# Altium schematic symbol library Relays.SchLib: 4 symbols
Pins are listed as number, name and electrical type; pins without a type are passive.

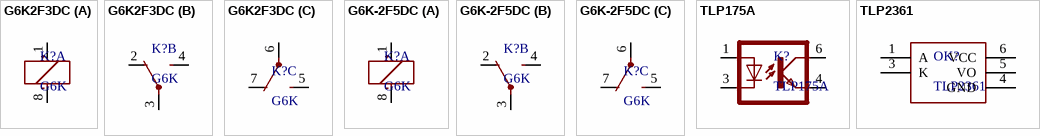
[diagram p0: symbols G6K2F3DC to TLP2361]

## G6K2F3DC
designator K?, comment G6K
OMRON ELECTRONIC COMPONENTS   G6K-2F 3DC   RELAY, SMD, DPCO, 3VDC; Manufacturer Part Number: G6K2F3DC; Contact Current Rating: 1A; Coil Resistance: 91R; Throw Configuration: DPDT; Coil Current: 33mA; Coil Voltage (DC): 3V; Operate Time: 3ms; Release Time: 1.3ms; Coil Type: Non-Latching; Coil Power: 100mW; Voltage Rating (AC): 125V; Number of Poles: 2; Contact Resistance: 100mR; Insulation Resistance: 1GR; Voltage Rating (DC): 60V; Supplier 1: Farnell; Supplier Part Number 1: 4446161; Manufacturer: Omron; RoHS: Yes; Category: Relays; Stock: 7; Pricing: 1=4.11000, 10=3.83000, 25=3.15000, 150=2.90000, 250=2.64000 (EUR); Mount: PCB,Surface Mount; Number of Pins: 8; Contact Material: Gold,Silver; Min Operating Temperature: -40°C; Max Operating Temperature: 70°C; Termination: Gull Wing; Packaging: Rail/Tube; Current Rating: 33mA; Power Rating: 100mW; Length: 10mm; Height: 5.2mm; Depth: 7.8mm; Width: 10mm; Radiation Hardening: No; REACH SVHC: Unknown; ComponentLink1URL: https://datasheet.ciiva.com/26921/getdatasheetpartid-774292-26921118.pdf?src-supplier=Verical; ComponentLink1Description: https://datasheet.ciiva.com/26921/getdatasheetpartid-774292-26921118.pdf?src-supplier=Verical; ComponentLink2URL: https://datasheet.ciiva.com/1524/15378-1524967.pdf?src-supplier=Element14; ComponentLink2Description: https://datasheet.ciiva.com/1524/15378-1524967.pdf?src-supplier=Element14; Price: 2.74
footprint G6K
part A pins: 1 +, 8 -
part B pins: 2 O, 3 P, 4 S
part C pins: 5 S, 6 P, 7 O

## G6K-2F5DC
designator K?, comment G6K
OMRON - G6K-2F 5DC - RELAY, SIGNAL, DPDT, 30VDC, 1A; Manufacturer: Cliff; Coil Resistance: 237R; Coil Voltage (DC): 5V; Coil Current: 21.1mA; Coil Power: 100mW; Coil Type: Non-Latching; Release Time: 1.3ms; Contact Resistance: 100mR; Insulation Resistance: 1GR; Number of Poles: 2; Supplier 1: Farnell; Supplier Part Number 1: 4446185; Manufacturer Part Number: G6K-2F5DC; Stock: 0; RoHS: Yes; Mount: PCB; Case/Package: SMD/SMT; Contact Material: Gold; Min Operating Temperature: -40°C; Max Operating Temperature: 70°C; Contact Current Rating: 1A; Termination: SMD/SMT; Current Rating: 21.1mA; Power Rating: 100mW; Length: 10mm; Height: 5.2mm; Depth: 7.8mm; Width: 10mm; REACH SVHC: Unknown; ComponentLink1URL: https://datasheet.ciiva.com/1524/1702879-1524968.pdf?src-supplier=Element14; ComponentLink1Description: https://datasheet.ciiva.com/1524/1702879-1524968.pdf?src-supplier=Element14; Price: 2.68
footprint G6K
part A pins: 1 +, 8 -
part B pins: 2 O, 3 P, 4 S
part C pins: 5 S, 6 P, 7 O

## TLP175A
designator K?
Toshiba TLP175A AC Input MOSFET Output Optocoupler, Surface Mount, 4-Pin SOIC; Isolation Voltage: 3.75kV; Max Input Current: 80mA; Number of Channels: 1; Rise Time: 1ms; Supplier 1: Farnell; Supplier Part Number 1: 2524257; Manufacturer: Toshiba; Manufacturer Part Number: TLP175A; Stock: 0; Pricing: 5=0.877, 25=0.717, 100=0.597, 250=0.546, 500=0.49, 1000=0.441 (EUR); RoHS: No; Mount: Surface Mount; Case/Package: SOIC; Number of Pins: 4; Fall Time: 1ms; REACH SVHC: Unknown; ComponentLink1URL: http://www.farnell.com/datasheets/2017792.pdf?src-supplier=Farnell; ComponentLink1Description: http://www.farnell.com/datasheets/2017792.pdf?src-supplier=Farnell; ComponentLink2URL: http://uk.rs-online.com/webdocs/129d/0900766b8129d5be.pdf?src-supplier=RSComponents; ComponentLink2Description: http://uk.rs-online.com/webdocs/129d/0900766b8129d5be.pdf?src-supplier=RSComponents; ComponentLink3URL: http://www.farnell.com/datasheets/2017792.pdf?src-supplier=Element14; ComponentLink3Description: http://www.farnell.com/datasheets/2017792.pdf?src-supplier=Element14; ComponentLink4URL: http://www.farnell.com/datasheets/2017792.pdf?src-supplier=Newark; ComponentLink4Description: http://www.farnell.com/datasheets/2017792.pdf?src-supplier=Newark; Price: 0.829
footprint TLP175A (SOP, 4-Leads, Body 3.75x4.60mm, Pitch 2.54mm, IPC Medium Density)
pins: 1 A, 3 C, 4 EMIT, 6 COL

## TLP2361
designator OK?
TOSHIBA - TLP2361 - OPTOKOPPLER, DIGITAL, 3.75KV, SOP-5; Number of Channels: 1; Supplier 1: Farnell; Supplier Part Number 1: 2524282; Manufacturer: Toshiba; Manufacturer Part Number: TLP2361; RoHS: No; Stock: 2816; Pricing: 5=1.18000, 10=0.78500, 25=0.73300, 50=0.64500, 100=0.53800, 500=0.43200 (EUR); Case/Package: SOP; Number of Pins: 5; Isolation Voltage: 3.75kV; REACH SVHC: Unknown; ComponentLink1URL: http://www.farnell.com/datasheets/2017811.pdf?src-supplier=Farnell; ComponentLink1Description: http://www.farnell.com/datasheets/2017811.pdf?src-supplier=Farnell; ComponentLink2URL: http://www.farnell.com/datasheets/2017811.pdf?src-supplier=Element14; ComponentLink2Description: http://www.farnell.com/datasheets/2017811.pdf?src-supplier=Element14; Price: 0.73
footprint TLP2361
pins: 1 A, 3 K, 4 GND, 5 VO, 6 VCC